# EAGLE library part TC2030 (library RalimTek)
TAG-CONNECT ICSP Connector Manufacturer: Tag-Connect <http://www.tag-connect.com> Cable for easy In-Circuit Serial Programming. Designed for Microchip ICD2, suitable for many others. Two variants - one "with legs" (for hands-free fit on PCB) and another "without legs" for quick programming. PAD Description 1 MCLR/Vpp 2 Vdd 3 GND 4 PGD (ISPDAT) 5 PGC (ISPCLK) 6 nc (used for LVP) ©2009 ROFA.cz - modified and updated by Robert Darlington ‹rdarlington@gmail.com›
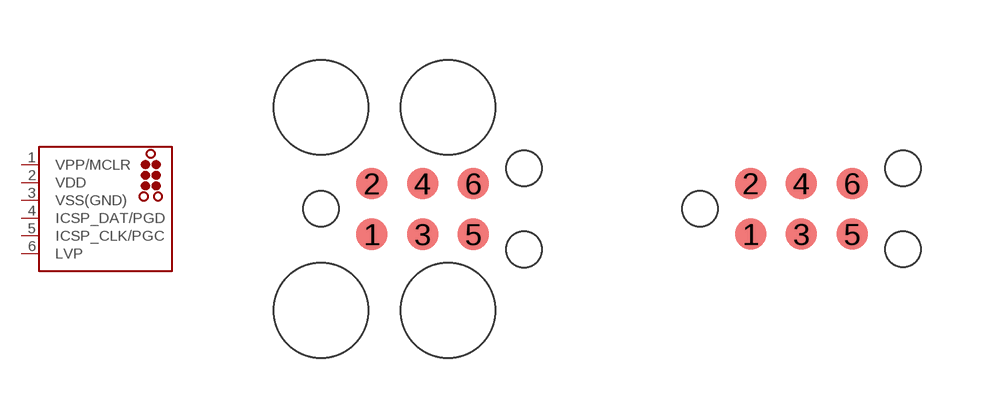
[diagram p20: symbol with the pads of TC2030-MCP; footprints TC2030-MCP, TC2030-MCP-NL]

Designator prefix J

## TC2030-MCP  [TC2030-MCP]
1  VPP/MCLR  pas
2  VDD  pwr
3  VSS(GND)  pwr
4  ICSP_DAT/PGD
5  ICSP_CLK/PGC  out
6  LVP

## TC2030-MCP-NL  [TC2030-MCP-NL]
Pads as for TC2030-MCP

## TC2030  [TC2030-MCP-NL-CP]
Pads as for TC2030-MCP

## Footprint TC2030-MCP (pad centres in mm)
TAG-CONNECT ICSP Connector - Legged version Manufacturer: Tag-Connect <http://www.tag-connect.com> Cable for easy In-Circuit Serial Programming. Designed for Microchip ICD2, suitable for many others. NOTE: Eagle's default spacing for drill holes does not leave sufficent room for routing traces for this footprint and should be adjusted. This setting can be found in the board layout editor under the Edit menu. Select "Design Rules" and then the Distance tab. 8 mils for Drill/Hole works well. PAD Description 1 MCLR/Vpp 2 Vdd 3 GND 4 PGD (ISPDAT) 5 PGC (ISPCLK) 6 nc (used for LVP) ©2009 ROFA.cz - modified and updated by Robert Darlington ‹rdarlington@gmail.com›
smd 0.787 x 0.787: 1 1.27,-0.635; 2 1.27,0.635; 3 2.54,-0.635; 4 2.54,0.635; 5 3.81,-0.635; 6 3.81,0.635
hole 0.889 at 0,0
hole 0.889 at 5.08,-1.016
hole 0.889 at 5.08,1.016
hole 2.375 at 0,2.54
hole 2.375 at 0,-2.54
hole 2.375 at 3.175,-2.54
hole 2.375 at 3.175,2.54

## Footprint TC2030-MCP-NL (pad centres in mm)
TAG-CONNECT ICSP Connector Manufacturer: Tag-Connect <www.tag-connect.com> Cable for easy In-Circuit Serial Programming. Designed for Microchip ICD2, suitable for many others. PAD Description 1 MCLR/Vpp 2 Vdd 3 GND 4 PGD (ISPDAT) 5 PGC (ISPCLK) 6 nc (used for LVP) ©2009 ROFA.cz - modified and updated by Robert Darlington ‹rdarlington@gmail.com›
smd 0.787 x 0.787: 1 1.27,-0.635; 2 1.27,0.635; 3 2.54,-0.635; 4 2.54,0.635; 5 3.81,-0.635; 6 3.81,0.635
hole 0.889 at 0,0
hole 0.889 at 5.08,-1.016
hole 0.889 at 5.08,1.016

## Footprint TC2030-MCP-NL-CP (pad centres in mm)
TAG-CONNECT ICSP Connector- with optional copper pads for steel alignment pins Manufacturer: Tag-Connect <http://www.tag-connect.com> Cable for easy In-Circuit Serial Programming. Designed for Microchip ICD2, suitable for many others. NOTE: Eagle's default spacing for drill holes does not leave sufficent room for routing traces for this footprint and should be adjusted. This setting can be found in the board layout editor under the Edit menu. Select "Design Rules" and then the Distance tab. 8 mils for Drill/Hole works well. PAD Description 1 MCLR/Vpp 2 Vdd 3 GND 4 PGD (ISPDAT) 5 PGC (ISPCLK) 6 nc (used for LVP) Note: Suitable Receptacle pins are 0295-0-15-xx-06-xx-10-0 series from Mill-Max <www.mill-max.com> ©2009 ROFA.cz - modified and updated by Robert Darlington ‹rdarlington@gmail.com›
smd 0.787 x 0.787: 1 1.27,-0.635; 2 1.27,0.635; 3 2.54,-0.635; 4 2.54,0.635; 5 3.81,-0.635; 6 3.81,0.635
hole 1.6 at 0,0
hole 1.6 at 5.08,1.016
hole 1.6 at 5.08,-1.016